# Altium footprint library Inductors.PcbLib: 25 footprints (part 1 of 2)
Each footprint in its own frame and in the unit in brackets; x right, y up, seen from the top. Pads: shape width x height; smd on the part's side, far side on the other; paste and mask are expansions set on the pad; w line width, h text height; cw(c..) or ccw(c..) is an arc to the next point about the centre after c.
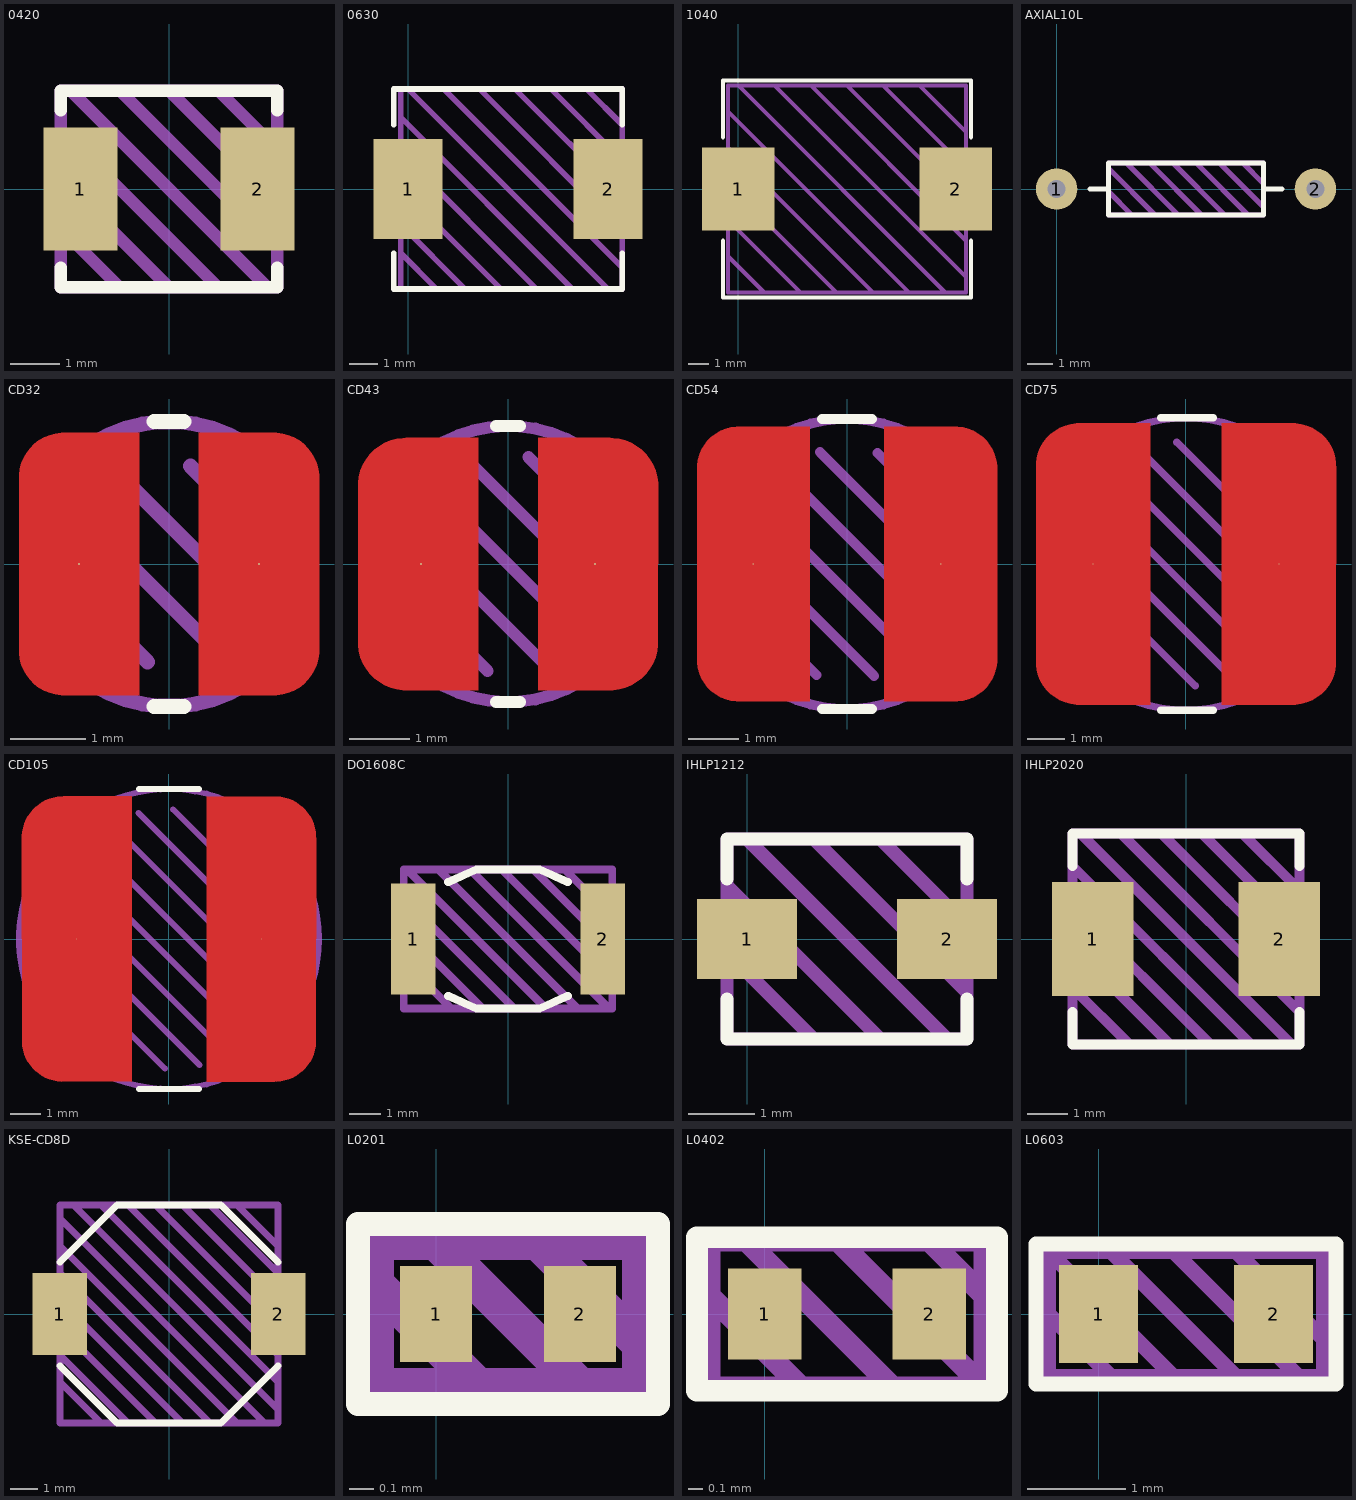
[diagram p0: the footprints below, top view; thin cyan lines are the x and y axes]

## 0420 [mm]
pads (2):
  rect 1.5x2.5 smd: 1(-1.8,0) 2(1.8,0)
Top Overlay:
  lines w0.25: -2.2,-1.6 -2.2,-2 2.2,-2 2.2,-1.6 ; -2.2,1.6 -2.2,2 2.2,2 2.2,1.6
Top Draw:
  lines w0.25: -2.2,-0.8 -1,-2 ; -2.2,0.2 0,-2 ; -2.2,1.2 1,-2 ; -2,2 2,-2 ; -1,2 2.2,-1.2 ; 0,2 2.2,-0.2 ; 1,2 2.2,0.8 ; -2.2,-2 2.2,-2 2.2,2 -2.2,2 -2.2,-2
Top Info:
  text "'.Comment'" at -3.186,-3.137 h0.75
3D body "CIP0420.step": height 2.2, standoff 0, extent -2.15,-2 2.15,2

## 0630 [mm] "06030 Power Inductor"
pads (2):
  rect 2.4x3.5 smd: 1(0,0) 2(7,0)
Top Overlay:
  lines w0.2: -0.5,-2.25 -0.5,-3.5 7.5,-3.5 7.5,-2.25 ; -0.5,2.25 -0.5,3.5 7.5,3.5 7.5,2.25
Top Draw:
  lines w0.2: -0.25,-2.25 1,-3.5 ; -0.25,-1.25 2,-3.5 ; -0.25,0 3.25,-3.5 ; -0.25,1.25 4.5,-3.5 ; -0.25,2.5 5.75,-3.5 ; 0,3.5 7,-3.5 ; 1.25,3.5 7.5,-2.75 ; 2.5,3.5 7.5,-1.5 ; 3.75,3.5 7.5,-0.25 ; 5,3.5 7.5,1 ; 6.25,3.5 7.5,2.25 ; -0.25,-3.5 7.5,-3.5 7.5,3.5 -0.25,3.5 -0.25,-3.5
Top Info:
  text "'.Comment'" at -0.749,-4.983 h1
3D body "CIP0630.step": height 3.2, standoff 0, extent -0.3,-3.375 7.3,3.375

## 1040 [mm] "10040 Power Inductor"
pads (2):
  rect 3.5x4 smd: 1(0,0) 2(10.5,0)
Top Overlay:
  lines w0.2: -0.75,-2.5 -0.75,-5.25 11.25,-5.25 11.25,-2.5 ; -0.75,2.5 -0.75,5.25 11.25,5.25 11.25,2.5
Top Draw:
  lines w0.2: -0.5,-3.25 1.25,-5 ; -0.5,-1.5 3,-5 ; -0.5,0.25 4.75,-5 ; -0.5,2 6.5,-5 ; -0.5,3.75 8.25,-5 ; 0,5 10,-5 ; 1.75,5 11,-4.25 ; 3.5,5 11,-2.5 ; 5.25,5 11,-0.75 ; 7,5 11,1 ; 8.75,5 11,2.75 ; -0.5,-5 11,-5 11,5 -0.5,5 -0.5,-5
Top Info:
  text "'.Comment'" at -1.123,-7.475 h1.5
3D body "CIP1040.step": height 4.2, standoff 0, extent -0.4,-5 10.9,5

## AXIAL10L [mm]
pads (2):
  round 1.6 hole 0.7: 1(0,0) 2(10,0)
Top Overlay:
  lines w0.2: 1.3,0 2,0 ; 8,0 8.7,0 ; 2,-1 2,1 8,1 8,-1 2,-1
Top Draw:
  lines w0.2: 2,-0.1 2.9,-1 ; 2,0.8 3.8,-1 ; 2.7,1 4.7,-1 ; 3.6,1 5.6,-1 ; 4.5,1 6.5,-1 ; 5.4,1 7.4,-1 ; 6.3,1 8,-0.7 ; 7.2,1 8,0.2 ; 2,-1 2,1 8,1 8,-1 2,-1
Top Info:
  text "'.Comment'" at 1.814,-2.137 h0.75
3D body "AXIAL10L.stp": height 2.25, standoff -2.6, extent -0.249,-0.993 10.249,0.993

## CD32 [mil]
pads (2):
  round 1 smd: 1(-47.24,0) 2(47.24,0)
Top Layer:
  region: -78.74,-45.28 -78.74,45.28 -78.74,46.82 -78.34,49.89 -77.53,52.88 -76.35,55.75 -74.8,58.43 -72.92,60.88 -70.73,63.07 -68.27,64.96 -65.59,66.51 -62.73,67.69 -59.74,68.49 -56.67,68.9 -55.12,68.9 -15.75,68.9 -15.75,-68.9 -55.12,-68.9 -56.67,-68.9 -59.74,-68.49 -62.73,-67.69 -65.59,-66.51 -68.27,-64.96 -70.73,-63.07 -72.92,-60.88 -74.8,-58.43 -76.35,-55.75 -77.53,-52.88 -78.34,-49.89 -78.74,-46.82
  region: 15.75,-68.9 15.75,68.9 55.12,68.9 56.67,68.9 59.74,68.49 62.73,67.69 65.59,66.51 68.27,64.96 70.73,63.07 72.92,60.88 74.8,58.43 76.35,55.75 77.53,52.88 78.34,49.89 78.74,46.82 78.74,45.28 78.74,-45.28 78.74,-46.82 78.34,-49.89 77.53,-52.88 76.35,-55.75 74.8,-58.43 72.92,-60.88 70.73,-63.07 68.27,-64.96 65.59,-66.51 62.73,-67.69 59.74,-68.49 56.67,-68.9 55.12,-68.9
Top Overlay:
  lines w7.87: -7.87,-74.8 7.87,-74.8 ; -7.87,74.8 7.87,74.8
Top Draw:
  circle w7.87: c0,0 r74.8
  lines w7.87: -51.46,-11.18 -11.18,-51.46 ; -46.18,25.3 25.3,-46.18 ; -25.3,46.18 46.18,-25.3 ; 11.18,51.46 51.46,11.18
Top Info:
  text "'.Comment'" at -83.63,-105.97 h19.68

## CD43 [mil]
pads (2):
  round 1 smd: 1(-57.09,0) 2(57.09,0)
Top Layer:
  region: -98.43,-51.18 -98.43,51.18 -98.43,53.25 -97.89,57.34 -96.82,61.33 -95.24,65.14 -93.17,68.72 -90.66,71.99 -87.74,74.91 -84.47,77.42 -80.89,79.49 -77.08,81.07 -73.09,82.14 -68.99,82.68 -66.93,82.68 -19.68,82.68 -19.68,-82.68 -66.93,-82.68 -68.99,-82.68 -73.09,-82.14 -77.07,-81.07 -80.89,-79.49 -84.46,-77.43 -87.74,-74.91 -90.66,-71.99 -93.17,-68.72 -95.24,-65.14 -96.82,-61.33 -97.89,-57.34 -98.43,-53.25
  region: 98.42,-51.18 98.42,51.18 98.42,53.25 97.89,57.34 96.82,61.33 95.24,65.14 93.17,68.72 90.66,71.99 87.74,74.91 84.47,77.42 80.89,79.49 77.08,81.07 73.09,82.14 68.99,82.68 66.93,82.68 19.68,82.68 19.68,-82.68 66.93,-82.68 68.99,-82.68 73.09,-82.14 77.07,-81.07 80.89,-79.49 84.46,-77.43 87.74,-74.91 90.66,-71.99 93.17,-68.72 95.24,-65.14 96.82,-61.33 97.89,-57.34 98.42,-53.25
Top Overlay:
  lines w7.87: -7.87,-90.55 7.87,-90.55 ; -7.87,90.55 7.87,90.55
Top Draw:
  circle w7.87: c0,0 r90.55
  lines w7.87: -70.08,-13.43 -13.43,-70.08 ; -66.81,25.06 25.06,-66.81 ; -50.46,50.46 50.46,-50.46 ; -25.06,66.81 66.81,-25.06 ; 13.43,70.08 70.08,13.43
Top Info:
  text "'.Comment'" at -133.82,-136.48 h31.5
3D body "SP43.STEP": height 129.53, standoff 0, extent -87.27,-78.74 87.27,78.74

## CD54 [mil]
pads (2):
  round 1 smd: 1(-73.82,0) 2(73.82,0)
Top Layer:
  region: 29.53,-108.27 29.53,108.27 84.89,108.27 87.07,108.27 91.39,107.7 95.59,106.57 99.62,104.91 103.39,102.73 106.84,100.08 109.92,97 112.57,93.54 114.75,89.77 116.41,85.75 117.54,81.54 118.11,77.23 118.11,75.05 118.11,-75.05 118.11,-77.23 117.54,-81.54 116.41,-85.75 114.75,-89.77 112.57,-93.54 109.92,-97 106.84,-100.08 103.39,-102.73 99.62,-104.91 95.59,-106.57 91.39,-107.7 87.07,-108.27 84.89,-108.27
  region: -118.11,-75.05 -118.11,75.05 -118.11,77.23 -117.54,81.54 -116.41,85.75 -114.75,89.77 -112.57,93.54 -109.92,97 -106.84,100.08 -103.39,102.73 -99.62,104.91 -95.59,106.57 -91.39,107.7 -87.07,108.27 -84.89,108.27 -29.53,108.27 -29.53,-108.27 -84.89,-108.27 -87.07,-108.27 -91.39,-107.7 -95.59,-106.57 -99.62,-104.91 -103.39,-102.73 -106.84,-100.08 -109.92,-97 -112.57,-93.54 -114.75,-89.77 -116.41,-85.75 -117.54,-81.54 -118.11,-77.23
Top Overlay:
  lines w7.87: -19.68,-114.17 19.68,-114.17 ; -19.68,114.17 19.68,114.17
Top Draw:
  circle w7.87: c0,0 r114.17
  lines w7.87: -88.03,21.22 21.22,-88.03 ; -87.3,-24.06 -24.06,-87.3 ; -74.19,51.92 51.92,-74.19 ; -51.92,74.19 74.19,-51.92 ; -21.22,88.03 88.03,-21.22 ; 24.06,87.3 87.3,24.06
Top Info:
  text "'.Comment'" at -133.82,-160.1 h31.5

## CD75 [mil]
pads (2):
  round 1 smd: 1(-97.44,0) 2(97.44,0)
Top Layer:
  region: 37.4,-147.64 37.4,147.64 112.45,147.64 115.4,147.64 121.25,146.87 126.96,145.34 132.41,143.08 137.52,140.13 142.2,136.54 146.38,132.36 149.97,127.68 152.92,122.57 155.18,117.11 156.71,111.41 157.48,105.56 157.48,102.61 157.48,-102.61 157.48,-105.56 156.71,-111.41 155.18,-117.11 152.92,-122.57 149.97,-127.68 146.38,-132.36 142.2,-136.54 137.52,-140.13 132.41,-143.08 126.96,-145.34 121.25,-146.87 115.4,-147.64 112.45,-147.64
  region: -157.48,-102.61 -157.48,102.61 -157.48,105.56 -156.71,111.41 -155.18,117.11 -152.92,122.57 -149.97,127.68 -146.38,132.36 -142.2,136.54 -137.52,140.13 -132.41,143.08 -126.96,145.34 -121.25,146.87 -115.4,147.64 -112.45,147.64 -37.4,147.64 -37.4,-147.64 -112.45,-147.64 -115.4,-147.64 -121.25,-146.87 -126.96,-145.34 -132.41,-143.08 -137.52,-140.13 -142.2,-136.54 -146.38,-132.36 -149.97,-127.68 -152.92,-122.57 -155.18,-117.11 -156.71,-111.41 -157.48,-105.56
Top Overlay:
  lines w7.87: -26.57,-153.54 28.54,-153.54 ; -26.57,153.54 28.54,153.54
Top Draw:
  circle w7.87: c0,0 r153.54
  lines w7.87: -128.07,9.76 9.76,-128.07 ; -120.1,-45.54 -45.54,-120.1 ; -119.1,48.11 48.11,-119.1 ; -101.88,78.22 78.22,-101.88 ; -78.22,101.88 101.88,-78.22 ; -48.11,119.1 119.1,-48.11 ; -9.76,128.07 128.07,-9.76 ; 45.54,120.1 120.1,45.54
Top Info:
  text "'.Comment'" at -167.27,-211.93 h39.37

## CD105 [mil]
pads (2):
  round 1 smd: 1(-121.06,0) 2(121.06,0)
Top Layer:
  region: 49.21,-187.01 49.21,187.01 139.03,187.01 141.67,187.01 146.94,186.49 152.14,185.46 157.2,183.92 162.09,181.89 166.76,179.4 171.17,176.46 175.26,173.1 179,169.35 182.36,165.26 185.3,160.86 187.8,156.19 189.82,151.3 191.36,146.23 192.39,141.04 192.91,135.77 192.91,133.12 192.91,-133.12 192.91,-135.77 192.39,-141.04 191.36,-146.23 189.82,-151.3 187.8,-156.19 185.3,-160.86 182.36,-165.26 179,-169.35 175.26,-173.1 171.17,-176.46 166.76,-179.4 162.09,-181.89 157.2,-183.92 152.14,-185.46 146.94,-186.49 141.67,-187.01 139.03,-187.01
  region: -192.91,-133.12 -192.91,133.12 -192.91,135.77 -192.39,141.04 -191.36,146.23 -189.82,151.3 -187.8,156.19 -185.3,160.86 -182.36,165.26 -179,169.35 -175.26,173.1 -171.17,176.46 -166.76,179.4 -162.09,181.89 -157.2,183.92 -152.13,185.46 -146.94,186.49 -141.67,187.01 -139.03,187.01 -49.21,187.01 -49.21,-187.01 -139.03,-187.01 -141.67,-187.01 -146.94,-186.49 -152.13,-185.46 -157.2,-183.92 -162.09,-181.89 -166.76,-179.4 -171.17,-176.46 -175.26,-173.1 -179,-169.35 -182.36,-165.26 -185.3,-160.86 -187.8,-156.19 -189.82,-151.3 -191.36,-146.23 -192.39,-141.04 -192.91,-135.77
Top Overlay:
  lines w7.87: -39.37,-196.85 39.37,-196.85 ; -39.37,196.85 39.37,196.85
Top Draw:
  circle w7.87: c0,0 r196.85
  lines w7.87: -170.2,-5.19 -5.19,-170.2 ; -165.46,40.19 40.19,-165.46 ; -155,-70.5 -70.5,-155 ; -151.97,76.8 76.8,-151.97 ; -132.28,107.22 107.22,-132.28 ; -107.22,132.28 132.28,-107.22 ; -76.8,151.97 151.97,-76.8 ; -40.19,165.46 165.46,-40.19 ; 5.19,170.2 170.2,5.19 ; 70.5,155 155,70.5
Top Info:
  text "'.Comment'" at -209.09,-268.86 h49.21

## DO1608C [mm]
pads (2):
  rect 1.4x3.5 smd: 1(-3,0) 2(3,0)
Top Overlay:
  lines w0.25: -1.9,-1.8 -1,-2.2 1,-2.2 1.9,-1.8 ; -1.9,1.8 -1,2.2 1,2.2 1.9,1.8
Top Draw:
  lines w0.25: -3.3,-0.7 -1.8,-2.2 ; -3.3,0.3 -0.8,-2.2 ; -3.3,1.3 0.2,-2.2 ; -3.2,2.2 1.2,-2.2 ; -2.2,2.2 2.2,-2.2 ; -1.2,2.2 3.2,-2.2 ; -0.2,2.2 3.3,-1.3 ; 0.8,2.2 3.3,-0.3 ; 1.8,2.2 3.3,0.7 ; -3.3,-2.2 3.3,-2.2 3.3,2.2 -3.3,2.2 -3.3,-2.2
Top Info:
  text "'.Comment'" at -4.249,-3.683 h1
3D body "DO1608C.step": height 2.92, standoff 0, extent -3.3,-2.225 3.3,2.225

## IHLP1212 [mm]
pads (2):
  rect 1.5x1.2 smd: 1(0,0) 2(3,0)
Top Overlay:
  lines w0.2: -0.3,-0.9 -0.3,-1.5 3.3,-1.5 3.3,-0.9 ; -0.3,0.9 -0.3,1.5 3.3,1.5 3.3,0.9
Top Draw:
  lines w0.2: -0.3,-0.2 1,-1.5 ; -0.3,0.8 2,-1.5 ; 0,1.5 3,-1.5 ; 1,1.5 3.3,-0.8 ; 2,1.5 3.3,0.2 ; -0.3,-1.5 0.9,-1.5 3.3,-1.5 3.3,1.5 -0.3,1.5 -0.3,-1.5
Top Info:
  text "'.Comment'" at -0.624,-2.292 h0.5
3D body "IHLP1212.step": height 2.01, standoff -0.03, extent -0.329,-1.497 3.329,1.5

## IHLP2020 [mm]
pads (2):
  rect 2x2.8 smd: 1(-2.3,0) 2(2.3,0)
Top Overlay:
  lines w0.25: -2.8,-1.8 -2.8,-2.6 2.8,-2.6 2.8,-1.8 ; -2.8,1.8 -2.8,2.6 2.8,2.6 2.8,1.8
Top Draw:
  lines w0.25: -2.8,-1.2 -1.4,-2.6 ; -2.8,-0.2 -0.4,-2.6 ; -2.8,0.8 0.6,-2.6 ; -2.8,1.8 1.6,-2.6 ; -2.6,2.6 2.6,-2.6 ; -1.6,2.6 2.8,-1.8 ; -0.6,2.6 2.8,-0.8 ; 0.4,2.6 2.8,0.2 ; 1.4,2.6 2.8,1.2 ; -2.8,-2.6 2.8,-2.6 2.8,2.6 -2.8,2.6 -2.8,-2.6
Top Info:
  text "'.Comment'" at -4.249,-4.083 h1
3D body "User Library-IHLP2020CZ.step": height 2.8, standoff -0.2, extent -2.75,-2.6 2.75,2.6

## KSE-CD8D [mm]
pads (2):
  rect 2x3 smd: 1(-4,0) 2(4,0)
Top Overlay:
  lines w0.25: -4,-1.9 -1.9,-4 1.9,-4 4,-1.9 ; -4,1.9 -1.9,4 1.9,4 4,1.9
Top Draw:
  lines w0.25: -4,-2.5 -2.5,-4 ; -4,-1.5 -1.5,-4 ; -4,-0.5 -0.5,-4 ; -4,0.5 0.5,-4 ; -4,1.5 1.5,-4 ; -4,2.5 2.5,-4 ; -4,3.5 3.5,-4 ; -3.5,4 4,-3.5 ; -2.5,4 4,-2.5 ; -1.5,4 4,-1.5 ; -0.5,4 4,-0.5 ; 0.5,4 4,0.5 ; 1.5,4 4,1.5 ; 2.5,4 4,2.5 ; -4,-4 -4,4 4,4 4,-4 -4,-4
Top Info:
  text "'.Comment'" at -6.373,-6.175 h1.5
3D body "CD8D38.step": height 3.6, standoff -0.2, extent -4.3,-4.1 4.3,4.1

## L0201 [mm]
height 0.3
pads (2):
  rect 0.3x0.4 smd: 1(0,0) 2(0.6,0)
Top Overlay:
  lines w0.1: -0.325,-0.375 -0.325,0.375 0.925,0.375 0.925,-0.375 -0.325,-0.375
Top Draw:
  lines w0.15: -0.25,0.125 0.175,-0.3 ; 0,0.3 0.6,-0.3 ; 0.425,0.3 0.85,-0.125 ; -0.25,-0.3 0.85,-0.3 0.85,0.3 -0.25,0.3 -0.25,-0.3
Top Info:
  text "'.Comment'" at -0.762,-0.771 h0.25
3D body "L0201.step": height 0.3, standoff 0, extent 0,-0.15 0.6,0.15

## L0402 [mil]
pads (2):
  rect 20x25 smd: 1(0,0) 2(45,0)
Top Overlay:
  lines w5.91: -18.5,-21 63.5,-21 63.5,21 -18.5,21 -18.5,-21
Top Draw:
  lines w5.91: -15,5 10,-20 ; -5,20 35,-20 ; 20,20 60,-20 ; 45,20 60,5 ; 60,-20 -15,-20 -15,20 60,20 60,-20
Top Info:
  text "'.Comment'" at -36.04,-43.04 h13.78
3D body "Chip2PinSM127P600-8N.step": height 13.78, standoff 0, extent 2.81,-9.84 42.19,9.84

## L0603 [mm]
pads (2):
  rect 0.8x1 smd: 1(0,0) 2(1.778,0)
Top Overlay:
  lines w0.15: -0.635,-0.711 -0.635,0.711 2.413,0.711 2.413,-0.711 -0.635,-0.711
Top Draw:
  lines w0.15: -0.508,0 0.127,-0.635 ; 0.127,0.635 1.397,-0.635 ; 0.762,-0.635 -0.508,0.635 ; 0.762,0.635 2.032,-0.635 ; 1.397,0.635 2.286,-0.254 ; -0.508,0.635 -0.508,-0.635 2.286,-0.635 2.286,0.635 -0.508,0.635
Top Info:
  text "'.Comment'" at -1.224,-1.492 h0.5
3D body "Chip2PinSM127P600-8N11.step": height 0.45, standoff 0, extent 0.114,-0.425 1.664,0.425